# EAGLE library part 7D (library CIT-7-SEG-LED)
24mm (Package width) 7 segment led dispay with two common connectors
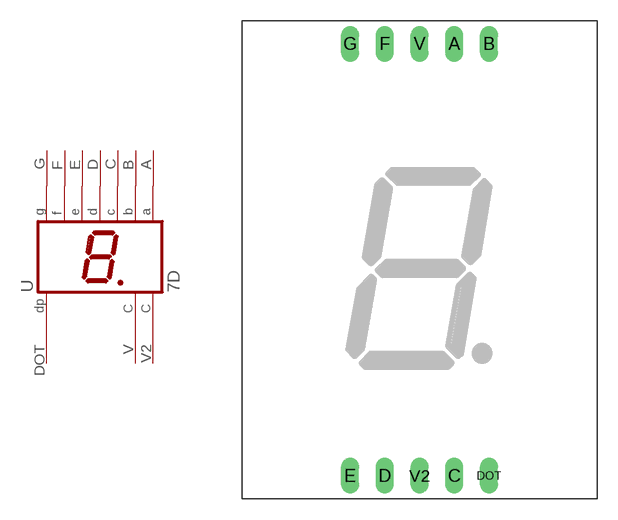
[diagram p0: symbol with the pads of 7P; footprint 7P]

Designator prefix -

## 7D  [7P]
A  A  pas
B  B  pas
C  C  pas
D  D  pas
DOT  DP  pas
E  E  pas
F  F  pas
G  G  pas
V  CC  pas
V2  CC  pas

## Footprint 7P (pad centres in mm)
External package and pin layout correct. LEDs may differ in size.
drill 0.813 long: A 2.54,16.3; B 5.08,16.3; C 2.54,-15.3; D -2.54,-15.3; DOT 5.08,-15.3; E -5.08,-15.3; F -2.54,16.3; G -5.08,16.3; V 0,16.3; V2 0,-15.3